# Altium schematic symbol library BUTTON.SchLib: 1 symbol
Pins are listed as number, name and electrical type; pins without a type are passive.

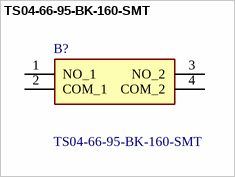
[diagram p0: symbol TS04-66-95-BK-160-SMT]

## TS04-66-95-BK-160-SMT
designator B?
Switch Tactile OFF (ON) SPST Round Button Gull Wing 0.05A 12VDC 80000Cycles 1.6N SMD Bag; Manufacturer_Name: CUI Devices; Geometry.Height: 9.6mm; Mouser Part Number: 179-TS046695BK160SMT; Mouser Price/Stock: https://www.mouser.co.uk/ProductDetail/CUI-Devices/TS04-66-95-BK-160-SMT?qs=A6eO%252BMLsxmRHS9UJ0C8iIA%3D%3D; Manufacturer_Part_Number: TS04-66-95-BK-160-SMT; Datasheet Link: https://www.arrow.com/en/products/ts04-66-95-bk-160-smt/cui-devices?region=nac
footprint TS046695BK160SMT
pins: 1 NO_1, 2 COM_1, 3 NO_2, 4 COM_2